# Altium footprint library Heater.PcbLib: 31 footprints (part 1 of 2)
Each footprint in its own frame and in the unit in brackets; x right, y up, seen from the top. Pads: shape width x height; smd on the part's side, far side on the other; paste and mask are expansions set on the pad; w line width, h text height; cw(c..) or ccw(c..) is an arc to the next point about the centre after c.
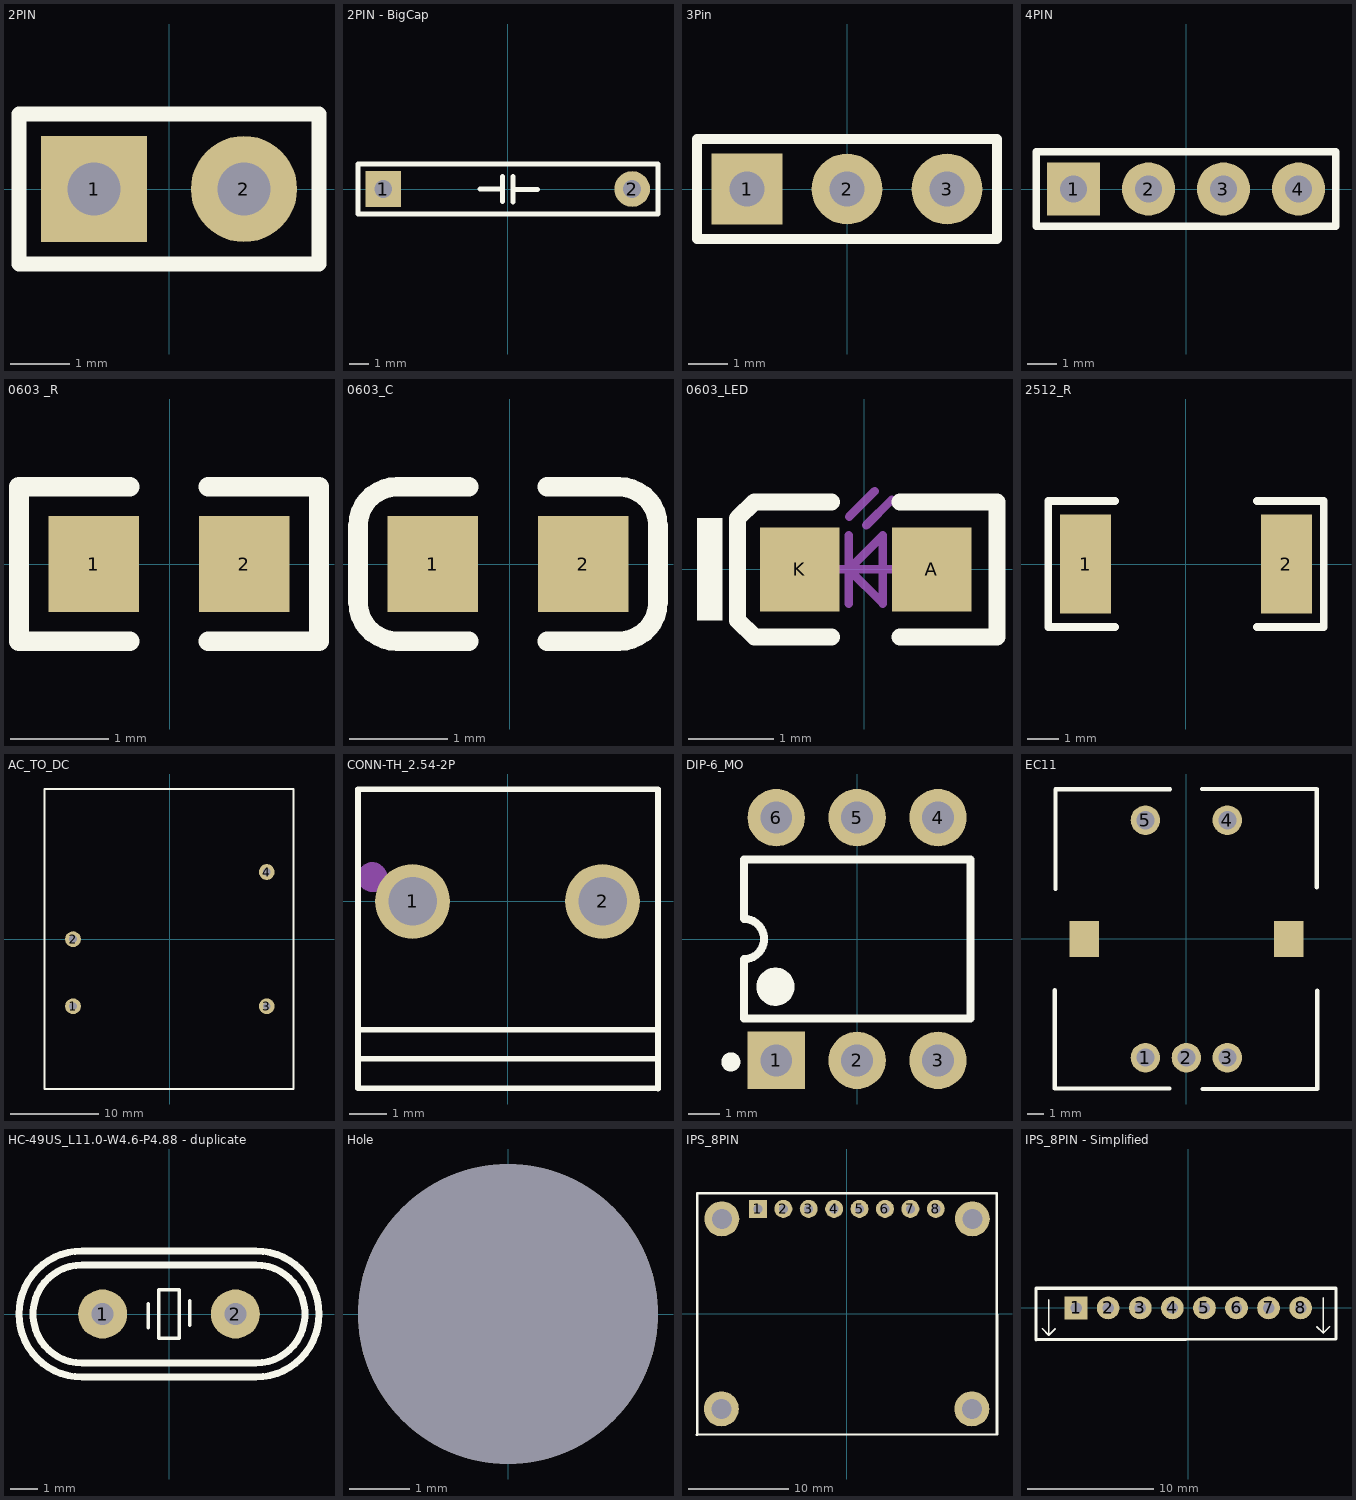
[diagram p0: the footprints below, top view; thin cyan lines are the x and y axes]

## 2PIN [mm]
pads (2):
  rect 1.8x1.8 hole 0.9: 1(-1.27,0)
  round 1.8 hole 0.9: 2(1.27,0)
Top Overlay:
  lines w0.254: -2.54,-1.27 -2.54,1.27 2.54,1.27 2.54,-1.27 -2.54,-1.27

## 2PIN - BigCap [mm]
pads (2):
  rect 1.8x1.8 hole 0.9: 1(-6.27,0)
  round 1.8 hole 0.9: 2(6.27,0)
Top Overlay:
  lines w0.254: -1.397,0 -0.254,0 ; -0.254,-0.635 -0.254,0.635 ; 0.263,-0.649 0.263,0.621 ; 0.263,-0.014 1.51,-0.014 ; 7.573,-1.27 -7.54,-1.27 -7.54,1.27 7.573,1.27 7.573,-1.254

## 3Pin [mm]
pads (3):
  rect 1.8x1.8 hole 0.9: 1(-2.54,0)
  round 1.8 hole 0.9: 2(0,0) 3(2.54,0)
Top Overlay:
  lines w0.254: -3.81,-1.27 3.81,-1.27 3.81,1.27 -3.81,1.27 -3.81,-1.27

## 4PIN [mm]
pads (4):
  rect 1.8x1.8 hole 0.9: 1(-3.81,0)
  round 1.8 hole 0.9: 2(-1.27,0) 3(1.27,0) 4(3.81,0)
Top Overlay:
  lines w0.254: -5.08,-1.27 5.08,-1.27 5.08,1.27 -5.08,1.27 -5.08,-1.27

## 0603 _R [mm]
pads (2):
  rect 0.93x0.98 smd: 1(-0.778,0) 2(0.762,0)
Top Overlay:
  lines w0.2: -0.408,-0.79 -1.543,-0.79 -1.543,0.79 -0.408,0.79 ; 0.392,-0.79 1.527,-0.79 1.527,0.79 0.392,0.79
3D body "User Library-RES_1609-0603.STEP": height 0.56, standoff 0, extent -0.858,-0.4 0.842,0.4

## 0603_C [mm]
pads (2):
  rect 0.93x0.98 smd: 1(-0.786,0) 2(0.754,0)
Top Overlay:
  lines w0.2: -0.416,-0.79 -1.151,-0.79 cw(c-1.151,-0.39) -1.551,-0.39 -1.551,0.39 cw(c-1.151,0.39) -1.151,0.79 -0.416,0.79 ; 0.384,-0.79 1.119,-0.79 ccw(c1.119,-0.39) 1.519,-0.39 1.519,0.39 ccw(c1.119,0.39) 1.119,0.79 0.384,0.79
3D body "User Library-0603 SMD Capacitor.STEP": height 0.3, standoff 0, extent -0.816,-0.4 0.784,0.4

## 0603_LED [mm]
pads (2):
  rect 0.93x0.98 smd: A(0.787,0) K(-0.753,0)
Top Overlay:
  rectangle: -1.958,-0.6 -1.658,0.6
  lines w0.2: -0.383,-0.79 -1.283,-0.79 -1.483,-0.597 -1.483,0.597 -1.283,0.79 -0.383,0.79 ; 0.417,-0.79 1.552,-0.79 1.552,0.79 0.417,0.79
Mechanical 13:
  lines w0.1: -0.383,0 0.417,0 ; -0.183,-0.4 -0.183,0.4 ; -0.178,0.617 0.122,0.917 ; 0.022,0.517 0.322,0.817 ; -0.183,0 0.217,-0.4 0.217,0.4 -0.183,0
3D body "User Library-LED_0603_R.STEP": height 0.6, standoff 0, extent -0.782,-0.4 0.818,0.4

## 2512_R [mm]
pads (2):
  rect 1.65x3.2 smd mask+0.102: 1(-3.24,0) 2(3.24,0)
Top Overlay:
  lines w0.254: -4.445,-2.032 -2.286,-2.032 ; -4.445,-2.028 -4.445,2.032 -2.286,2.032 ; 2.286,-2.032 4.445,-2.032 4.445,2.028 ; 2.286,2.032 4.445,2.032

## AC_TO_DC [mm]
pads (4):
  round 1.8 hole 0.9: 1(-11,-7.62) 2(-11,0) 3(11,-7.62) 4(11,7.62)
Top Overlay:
  lines w0.254: -14.229,16.983 -14.229,-17.018 13.843,-17.018 14.029,-17.018 14.029,17.053 -14.229,17.053

## CONN-TH_2.54-2P [mm]
pads (2):
  round 2 hole 1.3: 1(-2.54,0) 2(2.54,0)
Top Overlay:
  lines w0.152: -4,-4.205 3.937,-4.205 ; -4,-3.429 3.937,-3.429 ; 4.023,-5.011 4.023,2.989 ; 4.023,-5 -4,-5 -4,3 4.023,3
Mechanical 15:
  circle w0.4: c-3.62,0.651 r0.2

## DIP-6_MO [mm]
pads (6):
  rect 1.8x1.8 hole 1: 1(-2.54,-3.81)
  round 1.8 hole 1: 2(0,-3.81) 3(2.54,-3.81) 4(2.54,3.81) 5(0,3.81) 6(-2.54,3.81)
Top Overlay:
  lines w0.254: -3.556,-2.5 3.556,-2.5 3.556,2.5 -3.556,2.5 -3.556,0.635 cw(c-3.556,0) -3.556,-0.635 -3.556,-2.5
  lines w0.3: -4.115,-3.861 ccw(c-3.965,-3.86) -4.115,-3.858
  lines w0.6: -2.865,-1.501 ccw(c-2.565,-1.499) -2.865,-1.496

## EC11 [mm]
pads (7):
  round 1.8 hole 1.1: 1(-2.5,-7.25) 2(0,-7.25) 3(2.5,-7.25) 4(2.5,7.25) 5(-2.5,7.25)
  rect 1.8x2.2 smd: ""(-6.25,0) ""(6.25,0)
Top Overlay:
  lines w0.254: -8.038,-3.13 -8.038,-9.13 -1.038,-9.13 ; -8.001,3.048 -8.001,9.048 ; -8,9.144 -1,9.144 ; 0.962,9.158 7.962,9.158 7.962,3.158 ; 0.992,-9.16 7.992,-9.16 7.992,-3.16

## HC-49US_L11.0-W4.6-P4.88 - duplicate [mm]
pads (2):
  round 1.8 hole 0.8: 1(-2.44,0) 2(2.44,0)
Top Overlay:
  lines w0.127: -0.762,-0.508 -0.762,0.381 ; 0.77,-0.409 0.77,0.48 ; -0.381,-0.889 -0.381,0.889 0.381,0.889 0.381,-0.889 -0.381,-0.889
  lines w0.258: -3.2,-2.322 cw(c-3.193,0) -3.2,2.322 3.2,2.322 cw(c3.193,0) 3.2,-2.322 -3.2,-2.322 ; -3.2,-1.806 cw(c-3.193,0) -3.2,1.806 3.2,1.806 cw(c3.193,0) 3.2,-1.806 -3.2,-1.806

## Hole [mm]
pads (1):
  round 5 hole 5 unplated: ""(0,0)

## IPS_8PIN [mm]
pads (12):
  rect 1.8x1.8 hole 0.9: 1(-8.89,10.5)
  round 1.8 hole 0.9: 2(-6.35,10.5) 3(-3.81,10.5) 4(-1.27,10.5) 5(1.27,10.5) 6(3.81,10.5) 7(6.35,10.5) 8(8.89,10.5)
  round 3.5 hole 2 unplated: ""(-12.544,-9.498) ""(-12.5,9.5) ""(12.5,-9.5) ""(12.544,9.498)
Top Overlay:
  lines w0.254: -14.982,-12.092 14.986,-12.015 ; -14.973,-12.079 -14.973,12.065 14.986,12.065 15.014,-12.015

## IPS_8PIN - Simplified [mm]
pads (8):
  rect 1.8x1.8 hole 0.9: 1(-8.89,0)
  round 1.8 hole 0.9: 2(-6.35,0) 3(-3.81,0) 4(-1.27,0) 5(1.27,0) 6(3.81,0) 7(6.35,0) 8(8.89,0)
Top Overlay:
  lines w0.127: -11.557,-1.651 -11.049,-2.159 ; -11.049,0.635 -11.049,-2.159 ; -10.541,-1.651 -11.049,-2.159 ; 10.16,-1.483 10.668,-1.991 ; 10.668,0.803 10.668,-1.991 ; 11.176,-1.483 10.668,-1.991
  lines w0.254: -12.065,-2.524 -12.065,1.565 11.682,1.565 11.687,-2.463 -12.065,-2.524